# Altium schematic symbol library RC0805.SchLib: 789 symbols (part 8 of 11)
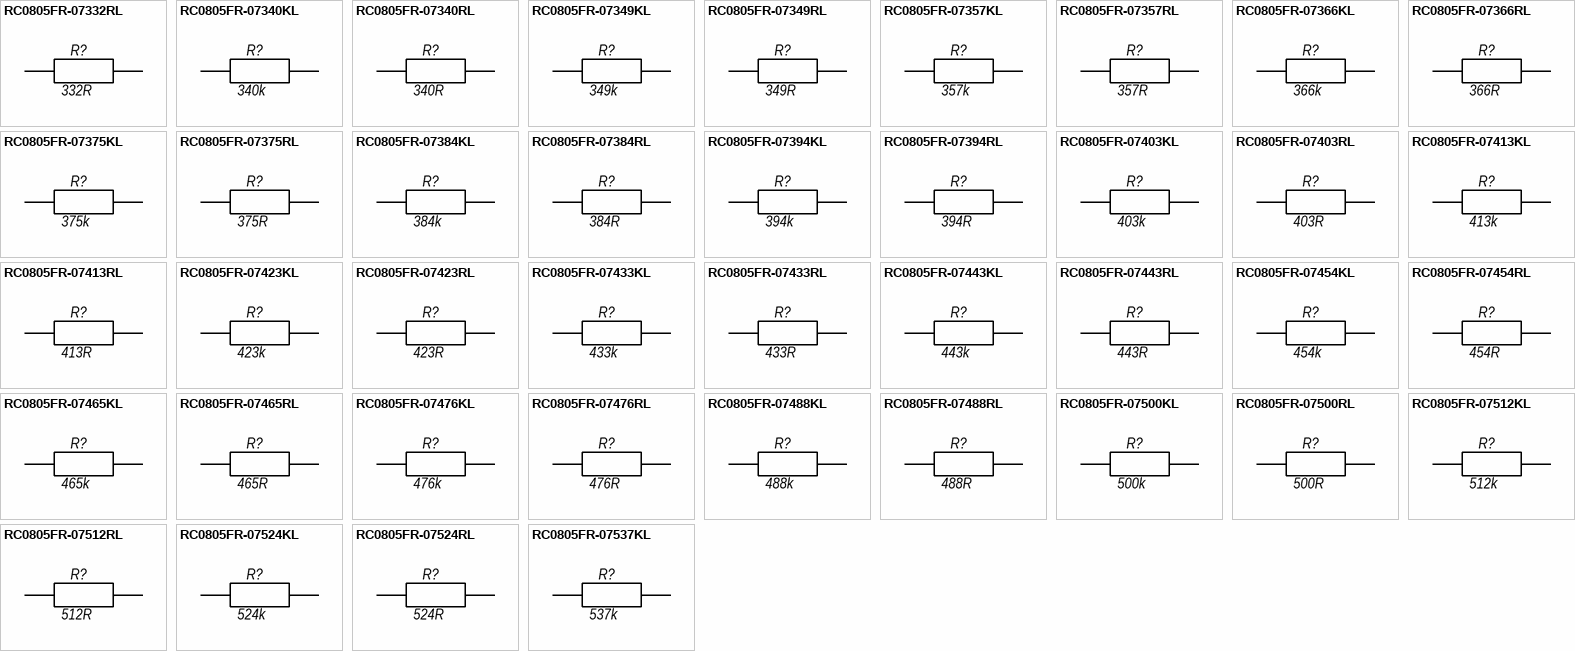
[diagram p26: symbols RC0805FR-07332RL to RC0805FR-07537KL]

## RC0805FR-07465KL
designator R?, comment 465k
RC0805FR-07465KL 0805 465 kOhm ±1% 1/8W 0805 SMD -55C...+155C; Manufacturer: Yageo; BOM2: 465 кОм ±1%, 1/8 Вт, SMD 0805, RC0805FR-07465KL; ValueBOM: RC0805FR-07465KL   Yageo                            (465 кОм ±1%, 1/8 Вт, SMD 0805, RC0805FR-07465KL); Value: 465k; Part Number: RC0805FR-07465KL; Package: 0805; BOM1: 465 kOhm ±1% 1/8W 0805 SMD
footprint RESC_0805_2012N (Chip Resistor, Body 2.0x1.3mm, IPC Medium Density)
footprint RESC_0805_2012M (Chip Resistor, Body 2.0x1.3mm, IPC Low Density)
footprint RESC_0805_2012L (Chip Resistor, Body 2.0x1.3mm, IPC High Density)
pins: 1, 2

## RC0805FR-07465RL
designator R?, comment 465R
RC0805FR-07465RL 0805 465 Ohm ±1% 1/8W 0805 SMD -55C...+155C; Manufacturer: Yageo; BOM2: 465 Ом ±1%, 1/8 Вт, SMD 0805, RC0805FR-07465RL; ValueBOM: RC0805FR-07465RL   Yageo                            (465 Ом ±1%, 1/8 Вт, SMD 0805, RC0805FR-07465RL); Value: 465R; Part Number: RC0805FR-07465RL; Package: 0805; BOM1: 465 Ohm ±1% 1/8W 0805 SMD
footprint RESC_0805_2012N (Chip Resistor, Body 2.0x1.3mm, IPC Medium Density)
footprint RESC_0805_2012M (Chip Resistor, Body 2.0x1.3mm, IPC Low Density)
footprint RESC_0805_2012L (Chip Resistor, Body 2.0x1.3mm, IPC High Density)
pins: 1, 2

## RC0805FR-07476KL
designator R?, comment 476k
RC0805FR-07476KL 0805 476 kOhm ±1% 1/8W 0805 SMD -55C...+155C; Manufacturer: Yageo; BOM2: 476 кОм ±1%, 1/8 Вт, SMD 0805, RC0805FR-07476KL; ValueBOM: RC0805FR-07476KL   Yageo                            (476 кОм ±1%, 1/8 Вт, SMD 0805, RC0805FR-07476KL); Value: 476k; Part Number: RC0805FR-07476KL; Package: 0805; BOM1: 476 kOhm ±1% 1/8W 0805 SMD
footprint RESC_0805_2012N (Chip Resistor, Body 2.0x1.3mm, IPC Medium Density)
footprint RESC_0805_2012M (Chip Resistor, Body 2.0x1.3mm, IPC Low Density)
footprint RESC_0805_2012L (Chip Resistor, Body 2.0x1.3mm, IPC High Density)
pins: 1, 2

## RC0805FR-07476RL
designator R?, comment 476R
RC0805FR-07476RL 0805 476 Ohm ±1% 1/8W 0805 SMD -55C...+155C; Manufacturer: Yageo; BOM2: 476 Ом ±1%, 1/8 Вт, SMD 0805, RC0805FR-07476RL; ValueBOM: RC0805FR-07476RL   Yageo                            (476 Ом ±1%, 1/8 Вт, SMD 0805, RC0805FR-07476RL); Value: 476R; Part Number: RC0805FR-07476RL; Package: 0805; BOM1: 476 Ohm ±1% 1/8W 0805 SMD
footprint RESC_0805_2012N (Chip Resistor, Body 2.0x1.3mm, IPC Medium Density)
footprint RESC_0805_2012M (Chip Resistor, Body 2.0x1.3mm, IPC Low Density)
footprint RESC_0805_2012L (Chip Resistor, Body 2.0x1.3mm, IPC High Density)
pins: 1, 2

## RC0805FR-07488KL
designator R?, comment 488k
RC0805FR-07488KL 0805 488 kOhm ±1% 1/8W 0805 SMD -55C...+155C; Manufacturer: Yageo; BOM2: 488 кОм ±1%, 1/8 Вт, SMD 0805, RC0805FR-07488KL; ValueBOM: RC0805FR-07488KL   Yageo                            (488 кОм ±1%, 1/8 Вт, SMD 0805, RC0805FR-07488KL); Value: 488k; Part Number: RC0805FR-07488KL; Package: 0805; BOM1: 488 kOhm ±1% 1/8W 0805 SMD
footprint RESC_0805_2012N (Chip Resistor, Body 2.0x1.3mm, IPC Medium Density)
footprint RESC_0805_2012M (Chip Resistor, Body 2.0x1.3mm, IPC Low Density)
footprint RESC_0805_2012L (Chip Resistor, Body 2.0x1.3mm, IPC High Density)
pins: 1, 2

## RC0805FR-07488RL
designator R?, comment 488R
RC0805FR-07488RL 0805 488 Ohm ±1% 1/8W 0805 SMD -55C...+155C; Manufacturer: Yageo; BOM2: 488 Ом ±1%, 1/8 Вт, SMD 0805, RC0805FR-07488RL; ValueBOM: RC0805FR-07488RL   Yageo                            (488 Ом ±1%, 1/8 Вт, SMD 0805, RC0805FR-07488RL); Value: 488R; Part Number: RC0805FR-07488RL; Package: 0805; BOM1: 488 Ohm ±1% 1/8W 0805 SMD
footprint RESC_0805_2012N (Chip Resistor, Body 2.0x1.3mm, IPC Medium Density)
footprint RESC_0805_2012M (Chip Resistor, Body 2.0x1.3mm, IPC Low Density)
footprint RESC_0805_2012L (Chip Resistor, Body 2.0x1.3mm, IPC High Density)
pins: 1, 2

## RC0805FR-07500KL
designator R?, comment 500k
RC0805FR-07500KL 0805 500 kOhm ±1% 1/8W 0805 SMD -55C...+155C; Manufacturer: Yageo; BOM2: 500 кОм ±1%, 1/8 Вт, SMD 0805, RC0805FR-07500KL; ValueBOM: RC0805FR-07500KL   Yageo                            (500 кОм ±1%, 1/8 Вт, SMD 0805, RC0805FR-07500KL); Value: 500k; Part Number: RC0805FR-07500KL; Package: 0805; BOM1: 500 kOhm ±1% 1/8W 0805 SMD
footprint RESC_0805_2012N (Chip Resistor, Body 2.0x1.3mm, IPC Medium Density)
footprint RESC_0805_2012M (Chip Resistor, Body 2.0x1.3mm, IPC Low Density)
footprint RESC_0805_2012L (Chip Resistor, Body 2.0x1.3mm, IPC High Density)
pins: 1, 2

## RC0805FR-07500RL
designator R?, comment 500R
RC0805FR-07500RL 0805 500 Ohm ±1% 1/8W 0805 SMD -55C...+155C; Manufacturer: Yageo; BOM2: 500 Ом ±1%, 1/8 Вт, SMD 0805, RC0805FR-07500RL; ValueBOM: RC0805FR-07500RL   Yageo                            (500 Ом ±1%, 1/8 Вт, SMD 0805, RC0805FR-07500RL); Value: 500R; Part Number: RC0805FR-07500RL; Package: 0805; BOM1: 500 Ohm ±1% 1/8W 0805 SMD
footprint RESC_0805_2012N (Chip Resistor, Body 2.0x1.3mm, IPC Medium Density)
footprint RESC_0805_2012M (Chip Resistor, Body 2.0x1.3mm, IPC Low Density)
footprint RESC_0805_2012L (Chip Resistor, Body 2.0x1.3mm, IPC High Density)
pins: 1, 2

## RC0805FR-07512KL
designator R?, comment 512k
RC0805FR-07512KL 0805 512 kOhm ±1% 1/8W 0805 SMD -55C...+155C; Manufacturer: Yageo; BOM2: 512 кОм ±1%, 1/8 Вт, SMD 0805, RC0805FR-07512KL; ValueBOM: RC0805FR-07512KL   Yageo                            (512 кОм ±1%, 1/8 Вт, SMD 0805, RC0805FR-07512KL); Value: 512k; Part Number: RC0805FR-07512KL; Package: 0805; BOM1: 512 kOhm ±1% 1/8W 0805 SMD
footprint RESC_0805_2012N (Chip Resistor, Body 2.0x1.3mm, IPC Medium Density)
footprint RESC_0805_2012M (Chip Resistor, Body 2.0x1.3mm, IPC Low Density)
footprint RESC_0805_2012L (Chip Resistor, Body 2.0x1.3mm, IPC High Density)
pins: 1, 2

## RC0805FR-07512RL
designator R?, comment 512R
RC0805FR-07512RL 0805 512 Ohm ±1% 1/8W 0805 SMD -55C...+155C; Manufacturer: Yageo; BOM2: 512 Ом ±1%, 1/8 Вт, SMD 0805, RC0805FR-07512RL; ValueBOM: RC0805FR-07512RL   Yageo                            (512 Ом ±1%, 1/8 Вт, SMD 0805, RC0805FR-07512RL); Value: 512R; Part Number: RC0805FR-07512RL; Package: 0805; BOM1: 512 Ohm ±1% 1/8W 0805 SMD
footprint RESC_0805_2012N (Chip Resistor, Body 2.0x1.3mm, IPC Medium Density)
footprint RESC_0805_2012M (Chip Resistor, Body 2.0x1.3mm, IPC Low Density)
footprint RESC_0805_2012L (Chip Resistor, Body 2.0x1.3mm, IPC High Density)
pins: 1, 2

## RC0805FR-07524KL
designator R?, comment 524k
RC0805FR-07524KL 0805 524 kOhm ±1% 1/8W 0805 SMD -55C...+155C; Manufacturer: Yageo; BOM2: 524 кОм ±1%, 1/8 Вт, SMD 0805, RC0805FR-07524KL; ValueBOM: RC0805FR-07524KL   Yageo                            (524 кОм ±1%, 1/8 Вт, SMD 0805, RC0805FR-07524KL); Value: 524k; Part Number: RC0805FR-07524KL; Package: 0805; BOM1: 524 kOhm ±1% 1/8W 0805 SMD
footprint RESC_0805_2012N (Chip Resistor, Body 2.0x1.3mm, IPC Medium Density)
footprint RESC_0805_2012M (Chip Resistor, Body 2.0x1.3mm, IPC Low Density)
footprint RESC_0805_2012L (Chip Resistor, Body 2.0x1.3mm, IPC High Density)
pins: 1, 2

## RC0805FR-07524RL
designator R?, comment 524R
RC0805FR-07524RL 0805 524 Ohm ±1% 1/8W 0805 SMD -55C...+155C; Manufacturer: Yageo; BOM2: 524 Ом ±1%, 1/8 Вт, SMD 0805, RC0805FR-07524RL; ValueBOM: RC0805FR-07524RL   Yageo                            (524 Ом ±1%, 1/8 Вт, SMD 0805, RC0805FR-07524RL); Value: 524R; Part Number: RC0805FR-07524RL; Package: 0805; BOM1: 524 Ohm ±1% 1/8W 0805 SMD
footprint RESC_0805_2012N (Chip Resistor, Body 2.0x1.3mm, IPC Medium Density)
footprint RESC_0805_2012M (Chip Resistor, Body 2.0x1.3mm, IPC Low Density)
footprint RESC_0805_2012L (Chip Resistor, Body 2.0x1.3mm, IPC High Density)
pins: 1, 2

## RC0805FR-07537KL
designator R?, comment 537k
RC0805FR-07537KL 0805 537 kOhm ±1% 1/8W 0805 SMD -55C...+155C; Manufacturer: Yageo; BOM2: 537 кОм ±1%, 1/8 Вт, SMD 0805, RC0805FR-07537KL; ValueBOM: RC0805FR-07537KL   Yageo                            (537 кОм ±1%, 1/8 Вт, SMD 0805, RC0805FR-07537KL); Value: 537k; Part Number: RC0805FR-07537KL; Package: 0805; BOM1: 537 kOhm ±1% 1/8W 0805 SMD
footprint RESC_0805_2012N (Chip Resistor, Body 2.0x1.3mm, IPC Medium Density)
footprint RESC_0805_2012M (Chip Resistor, Body 2.0x1.3mm, IPC Low Density)
footprint RESC_0805_2012L (Chip Resistor, Body 2.0x1.3mm, IPC High Density)
pins: 1, 2

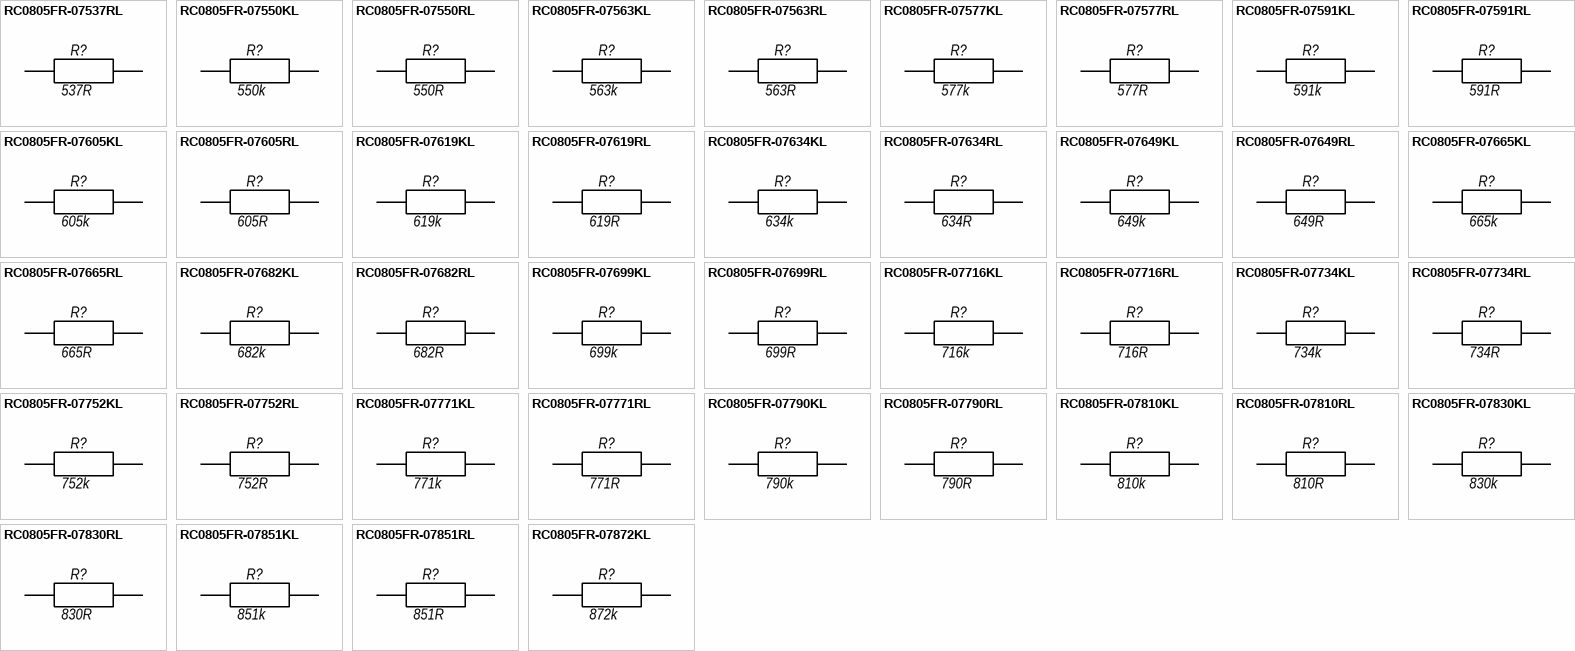
[diagram p14: symbols RC0805FR-07537RL to RC0805FR-07872KL]

## RC0805FR-07537RL
designator R?, comment 537R
RC0805FR-07537RL 0805 537 Ohm ±1% 1/8W 0805 SMD -55C...+155C; Manufacturer: Yageo; BOM2: 537 Ом ±1%, 1/8 Вт, SMD 0805, RC0805FR-07537RL; ValueBOM: RC0805FR-07537RL   Yageo                            (537 Ом ±1%, 1/8 Вт, SMD 0805, RC0805FR-07537RL); Value: 537R; Part Number: RC0805FR-07537RL; Package: 0805; BOM1: 537 Ohm ±1% 1/8W 0805 SMD
footprint RESC_0805_2012N (Chip Resistor, Body 2.0x1.3mm, IPC Medium Density)
footprint RESC_0805_2012M (Chip Resistor, Body 2.0x1.3mm, IPC Low Density)
footprint RESC_0805_2012L (Chip Resistor, Body 2.0x1.3mm, IPC High Density)
pins: 1, 2

## RC0805FR-07550KL
designator R?, comment 550k
RC0805FR-07550KL 0805 550 kOhm ±1% 1/8W 0805 SMD -55C...+155C; Manufacturer: Yageo; BOM2: 550 кОм ±1%, 1/8 Вт, SMD 0805, RC0805FR-07550KL; ValueBOM: RC0805FR-07550KL   Yageo                            (550 кОм ±1%, 1/8 Вт, SMD 0805, RC0805FR-07550KL); Value: 550k; Part Number: RC0805FR-07550KL; Package: 0805; BOM1: 550 kOhm ±1% 1/8W 0805 SMD
footprint RESC_0805_2012N (Chip Resistor, Body 2.0x1.3mm, IPC Medium Density)
footprint RESC_0805_2012M (Chip Resistor, Body 2.0x1.3mm, IPC Low Density)
footprint RESC_0805_2012L (Chip Resistor, Body 2.0x1.3mm, IPC High Density)
pins: 1, 2

## RC0805FR-07550RL
designator R?, comment 550R
RC0805FR-07550RL 0805 550 Ohm ±1% 1/8W 0805 SMD -55C...+155C; Manufacturer: Yageo; BOM2: 550 Ом ±1%, 1/8 Вт, SMD 0805, RC0805FR-07550RL; ValueBOM: RC0805FR-07550RL   Yageo                            (550 Ом ±1%, 1/8 Вт, SMD 0805, RC0805FR-07550RL); Value: 550R; Part Number: RC0805FR-07550RL; Package: 0805; BOM1: 550 Ohm ±1% 1/8W 0805 SMD
footprint RESC_0805_2012N (Chip Resistor, Body 2.0x1.3mm, IPC Medium Density)
footprint RESC_0805_2012M (Chip Resistor, Body 2.0x1.3mm, IPC Low Density)
footprint RESC_0805_2012L (Chip Resistor, Body 2.0x1.3mm, IPC High Density)
pins: 1, 2

## RC0805FR-07563KL
designator R?, comment 563k
RC0805FR-07563KL 0805 563 kOhm ±1% 1/8W 0805 SMD -55C...+155C; Manufacturer: Yageo; BOM2: 563 кОм ±1%, 1/8 Вт, SMD 0805, RC0805FR-07563KL; ValueBOM: RC0805FR-07563KL   Yageo                            (563 кОм ±1%, 1/8 Вт, SMD 0805, RC0805FR-07563KL); Value: 563k; Part Number: RC0805FR-07563KL; Package: 0805; BOM1: 563 kOhm ±1% 1/8W 0805 SMD
footprint RESC_0805_2012N (Chip Resistor, Body 2.0x1.3mm, IPC Medium Density)
footprint RESC_0805_2012M (Chip Resistor, Body 2.0x1.3mm, IPC Low Density)
footprint RESC_0805_2012L (Chip Resistor, Body 2.0x1.3mm, IPC High Density)
pins: 1, 2

## RC0805FR-07563RL
designator R?, comment 563R
RC0805FR-07563RL 0805 563 Ohm ±1% 1/8W 0805 SMD -55C...+155C; Manufacturer: Yageo; BOM2: 563 Ом ±1%, 1/8 Вт, SMD 0805, RC0805FR-07563RL; ValueBOM: RC0805FR-07563RL   Yageo                            (563 Ом ±1%, 1/8 Вт, SMD 0805, RC0805FR-07563RL); Value: 563R; Part Number: RC0805FR-07563RL; Package: 0805; BOM1: 563 Ohm ±1% 1/8W 0805 SMD
footprint RESC_0805_2012N (Chip Resistor, Body 2.0x1.3mm, IPC Medium Density)
footprint RESC_0805_2012M (Chip Resistor, Body 2.0x1.3mm, IPC Low Density)
footprint RESC_0805_2012L (Chip Resistor, Body 2.0x1.3mm, IPC High Density)
pins: 1, 2

## RC0805FR-07577KL
designator R?, comment 577k
RC0805FR-07577KL 0805 577 kOhm ±1% 1/8W 0805 SMD -55C...+155C; Manufacturer: Yageo; BOM2: 577 кОм ±1%, 1/8 Вт, SMD 0805, RC0805FR-07577KL; ValueBOM: RC0805FR-07577KL   Yageo                            (577 кОм ±1%, 1/8 Вт, SMD 0805, RC0805FR-07577KL); Value: 577k; Part Number: RC0805FR-07577KL; Package: 0805; BOM1: 577 kOhm ±1% 1/8W 0805 SMD
footprint RESC_0805_2012N (Chip Resistor, Body 2.0x1.3mm, IPC Medium Density)
footprint RESC_0805_2012M (Chip Resistor, Body 2.0x1.3mm, IPC Low Density)
footprint RESC_0805_2012L (Chip Resistor, Body 2.0x1.3mm, IPC High Density)
pins: 1, 2

## RC0805FR-07577RL
designator R?, comment 577R
RC0805FR-07577RL 0805 577 Ohm ±1% 1/8W 0805 SMD -55C...+155C; Manufacturer: Yageo; BOM2: 577 Ом ±1%, 1/8 Вт, SMD 0805, RC0805FR-07577RL; ValueBOM: RC0805FR-07577RL   Yageo                            (577 Ом ±1%, 1/8 Вт, SMD 0805, RC0805FR-07577RL); Value: 577R; Part Number: RC0805FR-07577RL; Package: 0805; BOM1: 577 Ohm ±1% 1/8W 0805 SMD
footprint RESC_0805_2012N (Chip Resistor, Body 2.0x1.3mm, IPC Medium Density)
footprint RESC_0805_2012M (Chip Resistor, Body 2.0x1.3mm, IPC Low Density)
footprint RESC_0805_2012L (Chip Resistor, Body 2.0x1.3mm, IPC High Density)
pins: 1, 2

## RC0805FR-07591KL
designator R?, comment 591k
RC0805FR-07591KL 0805 591 kOhm ±1% 1/8W 0805 SMD -55C...+155C; Manufacturer: Yageo; BOM2: 591 кОм ±1%, 1/8 Вт, SMD 0805, RC0805FR-07591KL; ValueBOM: RC0805FR-07591KL   Yageo                            (591 кОм ±1%, 1/8 Вт, SMD 0805, RC0805FR-07591KL); Value: 591k; Part Number: RC0805FR-07591KL; Package: 0805; BOM1: 591 kOhm ±1% 1/8W 0805 SMD
footprint RESC_0805_2012N (Chip Resistor, Body 2.0x1.3mm, IPC Medium Density)
footprint RESC_0805_2012M (Chip Resistor, Body 2.0x1.3mm, IPC Low Density)
footprint RESC_0805_2012L (Chip Resistor, Body 2.0x1.3mm, IPC High Density)
pins: 1, 2

## RC0805FR-07591RL
designator R?, comment 591R
RC0805FR-07591RL 0805 591 Ohm ±1% 1/8W 0805 SMD -55C...+155C; Manufacturer: Yageo; BOM2: 591 Ом ±1%, 1/8 Вт, SMD 0805, RC0805FR-07591RL; ValueBOM: RC0805FR-07591RL   Yageo                            (591 Ом ±1%, 1/8 Вт, SMD 0805, RC0805FR-07591RL); Value: 591R; Part Number: RC0805FR-07591RL; Package: 0805; BOM1: 591 Ohm ±1% 1/8W 0805 SMD
footprint RESC_0805_2012N (Chip Resistor, Body 2.0x1.3mm, IPC Medium Density)
footprint RESC_0805_2012M (Chip Resistor, Body 2.0x1.3mm, IPC Low Density)
footprint RESC_0805_2012L (Chip Resistor, Body 2.0x1.3mm, IPC High Density)
pins: 1, 2

## RC0805FR-07605KL
designator R?, comment 605k
RC0805FR-07605KL 0805 605 kOhm ±1% 1/8W 0805 SMD -55C...+155C; Manufacturer: Yageo; BOM2: 605 кОм ±1%, 1/8 Вт, SMD 0805, RC0805FR-07605KL; ValueBOM: RC0805FR-07605KL   Yageo                            (605 кОм ±1%, 1/8 Вт, SMD 0805, RC0805FR-07605KL); Value: 605k; Part Number: RC0805FR-07605KL; Package: 0805; BOM1: 605 kOhm ±1% 1/8W 0805 SMD
footprint RESC_0805_2012N (Chip Resistor, Body 2.0x1.3mm, IPC Medium Density)
footprint RESC_0805_2012M (Chip Resistor, Body 2.0x1.3mm, IPC Low Density)
footprint RESC_0805_2012L (Chip Resistor, Body 2.0x1.3mm, IPC High Density)
pins: 1, 2

## RC0805FR-07605RL
designator R?, comment 605R
RC0805FR-07605RL 0805 605 Ohm ±1% 1/8W 0805 SMD -55C...+155C; Manufacturer: Yageo; BOM2: 605 Ом ±1%, 1/8 Вт, SMD 0805, RC0805FR-07605RL; ValueBOM: RC0805FR-07605RL   Yageo                            (605 Ом ±1%, 1/8 Вт, SMD 0805, RC0805FR-07605RL); Value: 605R; Part Number: RC0805FR-07605RL; Package: 0805; BOM1: 605 Ohm ±1% 1/8W 0805 SMD
footprint RESC_0805_2012N (Chip Resistor, Body 2.0x1.3mm, IPC Medium Density)
footprint RESC_0805_2012M (Chip Resistor, Body 2.0x1.3mm, IPC Low Density)
footprint RESC_0805_2012L (Chip Resistor, Body 2.0x1.3mm, IPC High Density)
pins: 1, 2

## RC0805FR-07619KL
designator R?, comment 619k
RC0805FR-07619KL 0805 619 kOhm ±1% 1/8W 0805 SMD -55C...+155C; Manufacturer: Yageo; BOM2: 619 кОм ±1%, 1/8 Вт, SMD 0805, RC0805FR-07619KL; ValueBOM: RC0805FR-07619KL   Yageo                            (619 кОм ±1%, 1/8 Вт, SMD 0805, RC0805FR-07619KL); Value: 619k; Part Number: RC0805FR-07619KL; Package: 0805; BOM1: 619 kOhm ±1% 1/8W 0805 SMD
footprint RESC_0805_2012N (Chip Resistor, Body 2.0x1.3mm, IPC Medium Density)
footprint RESC_0805_2012M (Chip Resistor, Body 2.0x1.3mm, IPC Low Density)
footprint RESC_0805_2012L (Chip Resistor, Body 2.0x1.3mm, IPC High Density)
pins: 1, 2

## RC0805FR-07619RL
designator R?, comment 619R
RC0805FR-07619RL 0805 619 Ohm ±1% 1/8W 0805 SMD -55C...+155C; Manufacturer: Yageo; BOM2: 619 Ом ±1%, 1/8 Вт, SMD 0805, RC0805FR-07619RL; ValueBOM: RC0805FR-07619RL   Yageo                            (619 Ом ±1%, 1/8 Вт, SMD 0805, RC0805FR-07619RL); Value: 619R; Part Number: RC0805FR-07619RL; Package: 0805; BOM1: 619 Ohm ±1% 1/8W 0805 SMD
footprint RESC_0805_2012N (Chip Resistor, Body 2.0x1.3mm, IPC Medium Density)
footprint RESC_0805_2012M (Chip Resistor, Body 2.0x1.3mm, IPC Low Density)
footprint RESC_0805_2012L (Chip Resistor, Body 2.0x1.3mm, IPC High Density)
pins: 1, 2

## RC0805FR-07634KL
designator R?, comment 634k
RC0805FR-07634KL 0805 634 kOhm ±1% 1/8W 0805 SMD -55C...+155C; Manufacturer: Yageo; BOM2: 634 кОм ±1%, 1/8 Вт, SMD 0805, RC0805FR-07634KL; ValueBOM: RC0805FR-07634KL   Yageo                            (634 кОм ±1%, 1/8 Вт, SMD 0805, RC0805FR-07634KL); Value: 634k; Part Number: RC0805FR-07634KL; Package: 0805; BOM1: 634 kOhm ±1% 1/8W 0805 SMD
footprint RESC_0805_2012N (Chip Resistor, Body 2.0x1.3mm, IPC Medium Density)
footprint RESC_0805_2012M (Chip Resistor, Body 2.0x1.3mm, IPC Low Density)
footprint RESC_0805_2012L (Chip Resistor, Body 2.0x1.3mm, IPC High Density)
pins: 1, 2

## RC0805FR-07634RL
designator R?, comment 634R
RC0805FR-07634RL 0805 634 Ohm ±1% 1/8W 0805 SMD -55C...+155C; Manufacturer: Yageo; BOM2: 634 Ом ±1%, 1/8 Вт, SMD 0805, RC0805FR-07634RL; ValueBOM: RC0805FR-07634RL   Yageo                            (634 Ом ±1%, 1/8 Вт, SMD 0805, RC0805FR-07634RL); Value: 634R; Part Number: RC0805FR-07634RL; Package: 0805; BOM1: 634 Ohm ±1% 1/8W 0805 SMD
footprint RESC_0805_2012N (Chip Resistor, Body 2.0x1.3mm, IPC Medium Density)
footprint RESC_0805_2012M (Chip Resistor, Body 2.0x1.3mm, IPC Low Density)
footprint RESC_0805_2012L (Chip Resistor, Body 2.0x1.3mm, IPC High Density)
pins: 1, 2

## RC0805FR-07649KL
designator R?, comment 649k
RC0805FR-07649KL 0805 649 kOhm ±1% 1/8W 0805 SMD -55C...+155C; Manufacturer: Yageo; BOM2: 649 кОм ±1%, 1/8 Вт, SMD 0805, RC0805FR-07649KL; ValueBOM: RC0805FR-07649KL   Yageo                            (649 кОм ±1%, 1/8 Вт, SMD 0805, RC0805FR-07649KL); Value: 649k; Part Number: RC0805FR-07649KL; Package: 0805; BOM1: 649 kOhm ±1% 1/8W 0805 SMD
footprint RESC_0805_2012N (Chip Resistor, Body 2.0x1.3mm, IPC Medium Density)
footprint RESC_0805_2012M (Chip Resistor, Body 2.0x1.3mm, IPC Low Density)
footprint RESC_0805_2012L (Chip Resistor, Body 2.0x1.3mm, IPC High Density)
pins: 1, 2

## RC0805FR-07649RL
designator R?, comment 649R
RC0805FR-07649RL 0805 649 Ohm ±1% 1/8W 0805 SMD -55C...+155C; Manufacturer: Yageo; BOM2: 649 Ом ±1%, 1/8 Вт, SMD 0805, RC0805FR-07649RL; ValueBOM: RC0805FR-07649RL   Yageo                            (649 Ом ±1%, 1/8 Вт, SMD 0805, RC0805FR-07649RL); Value: 649R; Part Number: RC0805FR-07649RL; Package: 0805; BOM1: 649 Ohm ±1% 1/8W 0805 SMD
footprint RESC_0805_2012N (Chip Resistor, Body 2.0x1.3mm, IPC Medium Density)
footprint RESC_0805_2012M (Chip Resistor, Body 2.0x1.3mm, IPC Low Density)
footprint RESC_0805_2012L (Chip Resistor, Body 2.0x1.3mm, IPC High Density)
pins: 1, 2

## RC0805FR-07665KL
designator R?, comment 665k
RC0805FR-07665KL 0805 665 kOhm ±1% 1/8W 0805 SMD -55C...+155C; Manufacturer: Yageo; BOM2: 665 кОм ±1%, 1/8 Вт, SMD 0805, RC0805FR-07665KL; ValueBOM: RC0805FR-07665KL   Yageo                            (665 кОм ±1%, 1/8 Вт, SMD 0805, RC0805FR-07665KL); Value: 665k; Part Number: RC0805FR-07665KL; Package: 0805; BOM1: 665 kOhm ±1% 1/8W 0805 SMD
footprint RESC_0805_2012N (Chip Resistor, Body 2.0x1.3mm, IPC Medium Density)
footprint RESC_0805_2012M (Chip Resistor, Body 2.0x1.3mm, IPC Low Density)
footprint RESC_0805_2012L (Chip Resistor, Body 2.0x1.3mm, IPC High Density)
pins: 1, 2

## RC0805FR-07665RL
designator R?, comment 665R
RC0805FR-07665RL 0805 665 Ohm ±1% 1/8W 0805 SMD -55C...+155C; Manufacturer: Yageo; BOM2: 665 Ом ±1%, 1/8 Вт, SMD 0805, RC0805FR-07665RL; ValueBOM: RC0805FR-07665RL   Yageo                            (665 Ом ±1%, 1/8 Вт, SMD 0805, RC0805FR-07665RL); Value: 665R; Part Number: RC0805FR-07665RL; Package: 0805; BOM1: 665 Ohm ±1% 1/8W 0805 SMD
footprint RESC_0805_2012N (Chip Resistor, Body 2.0x1.3mm, IPC Medium Density)
footprint RESC_0805_2012M (Chip Resistor, Body 2.0x1.3mm, IPC Low Density)
footprint RESC_0805_2012L (Chip Resistor, Body 2.0x1.3mm, IPC High Density)
pins: 1, 2

## RC0805FR-07682KL
designator R?, comment 682k
RC0805FR-07682KL 0805 682 kOhm ±1% 1/8W 0805 SMD -55C...+155C; Manufacturer: Yageo; BOM2: 682 кОм ±1%, 1/8 Вт, SMD 0805, RC0805FR-07682KL; ValueBOM: RC0805FR-07682KL   Yageo                            (682 кОм ±1%, 1/8 Вт, SMD 0805, RC0805FR-07682KL); Value: 682k; Part Number: RC0805FR-07682KL; Package: 0805; BOM1: 682 kOhm ±1% 1/8W 0805 SMD
footprint RESC_0805_2012N (Chip Resistor, Body 2.0x1.3mm, IPC Medium Density)
footprint RESC_0805_2012M (Chip Resistor, Body 2.0x1.3mm, IPC Low Density)
footprint RESC_0805_2012L (Chip Resistor, Body 2.0x1.3mm, IPC High Density)
pins: 1, 2

## RC0805FR-07682RL
designator R?, comment 682R
RC0805FR-07682RL 0805 682 Ohm ±1% 1/8W 0805 SMD -55C...+155C; Manufacturer: Yageo; BOM2: 682 Ом ±1%, 1/8 Вт, SMD 0805, RC0805FR-07682RL; ValueBOM: RC0805FR-07682RL   Yageo                            (682 Ом ±1%, 1/8 Вт, SMD 0805, RC0805FR-07682RL); Value: 682R; Part Number: RC0805FR-07682RL; Package: 0805; BOM1: 682 Ohm ±1% 1/8W 0805 SMD
footprint RESC_0805_2012N (Chip Resistor, Body 2.0x1.3mm, IPC Medium Density)
footprint RESC_0805_2012M (Chip Resistor, Body 2.0x1.3mm, IPC Low Density)
footprint RESC_0805_2012L (Chip Resistor, Body 2.0x1.3mm, IPC High Density)
pins: 1, 2

## RC0805FR-07699KL
designator R?, comment 699k
RC0805FR-07699KL 0805 699 kOhm ±1% 1/8W 0805 SMD -55C...+155C; Manufacturer: Yageo; BOM2: 699 кОм ±1%, 1/8 Вт, SMD 0805, RC0805FR-07699KL; ValueBOM: RC0805FR-07699KL   Yageo                            (699 кОм ±1%, 1/8 Вт, SMD 0805, RC0805FR-07699KL); Value: 699k; Part Number: RC0805FR-07699KL; Package: 0805; BOM1: 699 kOhm ±1% 1/8W 0805 SMD
footprint RESC_0805_2012N (Chip Resistor, Body 2.0x1.3mm, IPC Medium Density)
footprint RESC_0805_2012M (Chip Resistor, Body 2.0x1.3mm, IPC Low Density)
footprint RESC_0805_2012L (Chip Resistor, Body 2.0x1.3mm, IPC High Density)
pins: 1, 2

## RC0805FR-07699RL
designator R?, comment 699R
RC0805FR-07699RL 0805 699 Ohm ±1% 1/8W 0805 SMD -55C...+155C; Manufacturer: Yageo; BOM2: 699 Ом ±1%, 1/8 Вт, SMD 0805, RC0805FR-07699RL; ValueBOM: RC0805FR-07699RL   Yageo                            (699 Ом ±1%, 1/8 Вт, SMD 0805, RC0805FR-07699RL); Value: 699R; Part Number: RC0805FR-07699RL; Package: 0805; BOM1: 699 Ohm ±1% 1/8W 0805 SMD
footprint RESC_0805_2012N (Chip Resistor, Body 2.0x1.3mm, IPC Medium Density)
footprint RESC_0805_2012M (Chip Resistor, Body 2.0x1.3mm, IPC Low Density)
footprint RESC_0805_2012L (Chip Resistor, Body 2.0x1.3mm, IPC High Density)
pins: 1, 2

## RC0805FR-07716KL
designator R?, comment 716k
RC0805FR-07716KL 0805 716 kOhm ±1% 1/8W 0805 SMD -55C...+155C; Manufacturer: Yageo; BOM2: 716 кОм ±1%, 1/8 Вт, SMD 0805, RC0805FR-07716KL; ValueBOM: RC0805FR-07716KL   Yageo                            (716 кОм ±1%, 1/8 Вт, SMD 0805, RC0805FR-07716KL); Value: 716k; Part Number: RC0805FR-07716KL; Package: 0805; BOM1: 716 kOhm ±1% 1/8W 0805 SMD
footprint RESC_0805_2012N (Chip Resistor, Body 2.0x1.3mm, IPC Medium Density)
footprint RESC_0805_2012M (Chip Resistor, Body 2.0x1.3mm, IPC Low Density)
footprint RESC_0805_2012L (Chip Resistor, Body 2.0x1.3mm, IPC High Density)
pins: 1, 2

## RC0805FR-07716RL
designator R?, comment 716R
RC0805FR-07716RL 0805 716 Ohm ±1% 1/8W 0805 SMD -55C...+155C; Manufacturer: Yageo; BOM2: 716 Ом ±1%, 1/8 Вт, SMD 0805, RC0805FR-07716RL; ValueBOM: RC0805FR-07716RL   Yageo                            (716 Ом ±1%, 1/8 Вт, SMD 0805, RC0805FR-07716RL); Value: 716R; Part Number: RC0805FR-07716RL; Package: 0805; BOM1: 716 Ohm ±1% 1/8W 0805 SMD
footprint RESC_0805_2012N (Chip Resistor, Body 2.0x1.3mm, IPC Medium Density)
footprint RESC_0805_2012M (Chip Resistor, Body 2.0x1.3mm, IPC Low Density)
footprint RESC_0805_2012L (Chip Resistor, Body 2.0x1.3mm, IPC High Density)
pins: 1, 2

## RC0805FR-07734KL
designator R?, comment 734k
RC0805FR-07734KL 0805 734 kOhm ±1% 1/8W 0805 SMD -55C...+155C; Manufacturer: Yageo; BOM2: 734 кОм ±1%, 1/8 Вт, SMD 0805, RC0805FR-07734KL; ValueBOM: RC0805FR-07734KL   Yageo                            (734 кОм ±1%, 1/8 Вт, SMD 0805, RC0805FR-07734KL); Value: 734k; Part Number: RC0805FR-07734KL; Package: 0805; BOM1: 734 kOhm ±1% 1/8W 0805 SMD
footprint RESC_0805_2012N (Chip Resistor, Body 2.0x1.3mm, IPC Medium Density)
footprint RESC_0805_2012M (Chip Resistor, Body 2.0x1.3mm, IPC Low Density)
footprint RESC_0805_2012L (Chip Resistor, Body 2.0x1.3mm, IPC High Density)
pins: 1, 2

## RC0805FR-07734RL
designator R?, comment 734R
RC0805FR-07734RL 0805 734 Ohm ±1% 1/8W 0805 SMD -55C...+155C; Manufacturer: Yageo; BOM2: 734 Ом ±1%, 1/8 Вт, SMD 0805, RC0805FR-07734RL; ValueBOM: RC0805FR-07734RL   Yageo                            (734 Ом ±1%, 1/8 Вт, SMD 0805, RC0805FR-07734RL); Value: 734R; Part Number: RC0805FR-07734RL; Package: 0805; BOM1: 734 Ohm ±1% 1/8W 0805 SMD
footprint RESC_0805_2012N (Chip Resistor, Body 2.0x1.3mm, IPC Medium Density)
footprint RESC_0805_2012M (Chip Resistor, Body 2.0x1.3mm, IPC Low Density)
footprint RESC_0805_2012L (Chip Resistor, Body 2.0x1.3mm, IPC High Density)
pins: 1, 2

## RC0805FR-07752KL
designator R?, comment 752k
RC0805FR-07752KL 0805 752 kOhm ±1% 1/8W 0805 SMD -55C...+155C; Manufacturer: Yageo; BOM2: 752 кОм ±1%, 1/8 Вт, SMD 0805, RC0805FR-07752KL; ValueBOM: RC0805FR-07752KL   Yageo                            (752 кОм ±1%, 1/8 Вт, SMD 0805, RC0805FR-07752KL); Value: 752k; Part Number: RC0805FR-07752KL; Package: 0805; BOM1: 752 kOhm ±1% 1/8W 0805 SMD
footprint RESC_0805_2012N (Chip Resistor, Body 2.0x1.3mm, IPC Medium Density)
footprint RESC_0805_2012M (Chip Resistor, Body 2.0x1.3mm, IPC Low Density)
footprint RESC_0805_2012L (Chip Resistor, Body 2.0x1.3mm, IPC High Density)
pins: 1, 2

## RC0805FR-07752RL
designator R?, comment 752R
RC0805FR-07752RL 0805 752 Ohm ±1% 1/8W 0805 SMD -55C...+155C; Manufacturer: Yageo; BOM2: 752 Ом ±1%, 1/8 Вт, SMD 0805, RC0805FR-07752RL; ValueBOM: RC0805FR-07752RL   Yageo                            (752 Ом ±1%, 1/8 Вт, SMD 0805, RC0805FR-07752RL); Value: 752R; Part Number: RC0805FR-07752RL; Package: 0805; BOM1: 752 Ohm ±1% 1/8W 0805 SMD
footprint RESC_0805_2012N (Chip Resistor, Body 2.0x1.3mm, IPC Medium Density)
footprint RESC_0805_2012M (Chip Resistor, Body 2.0x1.3mm, IPC Low Density)
footprint RESC_0805_2012L (Chip Resistor, Body 2.0x1.3mm, IPC High Density)
pins: 1, 2

## RC0805FR-07771KL
designator R?, comment 771k
RC0805FR-07771KL 0805 771 kOhm ±1% 1/8W 0805 SMD -55C...+155C; Manufacturer: Yageo; BOM2: 771 кОм ±1%, 1/8 Вт, SMD 0805, RC0805FR-07771KL; ValueBOM: RC0805FR-07771KL   Yageo                            (771 кОм ±1%, 1/8 Вт, SMD 0805, RC0805FR-07771KL); Value: 771k; Part Number: RC0805FR-07771KL; Package: 0805; BOM1: 771 kOhm ±1% 1/8W 0805 SMD
footprint RESC_0805_2012N (Chip Resistor, Body 2.0x1.3mm, IPC Medium Density)
footprint RESC_0805_2012M (Chip Resistor, Body 2.0x1.3mm, IPC Low Density)
footprint RESC_0805_2012L (Chip Resistor, Body 2.0x1.3mm, IPC High Density)
pins: 1, 2

## RC0805FR-07771RL
designator R?, comment 771R
RC0805FR-07771RL 0805 771 Ohm ±1% 1/8W 0805 SMD -55C...+155C; Manufacturer: Yageo; BOM2: 771 Ом ±1%, 1/8 Вт, SMD 0805, RC0805FR-07771RL; ValueBOM: RC0805FR-07771RL   Yageo                            (771 Ом ±1%, 1/8 Вт, SMD 0805, RC0805FR-07771RL); Value: 771R; Part Number: RC0805FR-07771RL; Package: 0805; BOM1: 771 Ohm ±1% 1/8W 0805 SMD
footprint RESC_0805_2012N (Chip Resistor, Body 2.0x1.3mm, IPC Medium Density)
footprint RESC_0805_2012M (Chip Resistor, Body 2.0x1.3mm, IPC Low Density)
footprint RESC_0805_2012L (Chip Resistor, Body 2.0x1.3mm, IPC High Density)
pins: 1, 2

## RC0805FR-07790KL
designator R?, comment 790k
RC0805FR-07790KL 0805 790 kOhm ±1% 1/8W 0805 SMD -55C...+155C; Manufacturer: Yageo; BOM2: 790 кОм ±1%, 1/8 Вт, SMD 0805, RC0805FR-07790KL; ValueBOM: RC0805FR-07790KL   Yageo                            (790 кОм ±1%, 1/8 Вт, SMD 0805, RC0805FR-07790KL); Value: 790k; Part Number: RC0805FR-07790KL; Package: 0805; BOM1: 790 kOhm ±1% 1/8W 0805 SMD
footprint RESC_0805_2012N (Chip Resistor, Body 2.0x1.3mm, IPC Medium Density)
footprint RESC_0805_2012M (Chip Resistor, Body 2.0x1.3mm, IPC Low Density)
footprint RESC_0805_2012L (Chip Resistor, Body 2.0x1.3mm, IPC High Density)
pins: 1, 2

## RC0805FR-07790RL
designator R?, comment 790R
RC0805FR-07790RL 0805 790 Ohm ±1% 1/8W 0805 SMD -55C...+155C; Manufacturer: Yageo; BOM2: 790 Ом ±1%, 1/8 Вт, SMD 0805, RC0805FR-07790RL; ValueBOM: RC0805FR-07790RL   Yageo                            (790 Ом ±1%, 1/8 Вт, SMD 0805, RC0805FR-07790RL); Value: 790R; Part Number: RC0805FR-07790RL; Package: 0805; BOM1: 790 Ohm ±1% 1/8W 0805 SMD
footprint RESC_0805_2012N (Chip Resistor, Body 2.0x1.3mm, IPC Medium Density)
footprint RESC_0805_2012M (Chip Resistor, Body 2.0x1.3mm, IPC Low Density)
footprint RESC_0805_2012L (Chip Resistor, Body 2.0x1.3mm, IPC High Density)
pins: 1, 2

## RC0805FR-07810KL
designator R?, comment 810k
RC0805FR-07810KL 0805 810 kOhm ±1% 1/8W 0805 SMD -55C...+155C; Manufacturer: Yageo; BOM2: 810 кОм ±1%, 1/8 Вт, SMD 0805, RC0805FR-07810KL; ValueBOM: RC0805FR-07810KL   Yageo                            (810 кОм ±1%, 1/8 Вт, SMD 0805, RC0805FR-07810KL); Value: 810k; Part Number: RC0805FR-07810KL; Package: 0805; BOM1: 810 kOhm ±1% 1/8W 0805 SMD
footprint RESC_0805_2012N (Chip Resistor, Body 2.0x1.3mm, IPC Medium Density)
footprint RESC_0805_2012M (Chip Resistor, Body 2.0x1.3mm, IPC Low Density)
footprint RESC_0805_2012L (Chip Resistor, Body 2.0x1.3mm, IPC High Density)
pins: 1, 2

## RC0805FR-07810RL
designator R?, comment 810R
RC0805FR-07810RL 0805 810 Ohm ±1% 1/8W 0805 SMD -55C...+155C; Manufacturer: Yageo; BOM2: 810 Ом ±1%, 1/8 Вт, SMD 0805, RC0805FR-07810RL; ValueBOM: RC0805FR-07810RL   Yageo                            (810 Ом ±1%, 1/8 Вт, SMD 0805, RC0805FR-07810RL); Value: 810R; Part Number: RC0805FR-07810RL; Package: 0805; BOM1: 810 Ohm ±1% 1/8W 0805 SMD
footprint RESC_0805_2012N (Chip Resistor, Body 2.0x1.3mm, IPC Medium Density)
footprint RESC_0805_2012M (Chip Resistor, Body 2.0x1.3mm, IPC Low Density)
footprint RESC_0805_2012L (Chip Resistor, Body 2.0x1.3mm, IPC High Density)
pins: 1, 2

## RC0805FR-07830KL
designator R?, comment 830k
RC0805FR-07830KL 0805 830 kOhm ±1% 1/8W 0805 SMD -55C...+155C; Manufacturer: Yageo; BOM2: 830 кОм ±1%, 1/8 Вт, SMD 0805, RC0805FR-07830KL; ValueBOM: RC0805FR-07830KL   Yageo                            (830 кОм ±1%, 1/8 Вт, SMD 0805, RC0805FR-07830KL); Value: 830k; Part Number: RC0805FR-07830KL; Package: 0805; BOM1: 830 kOhm ±1% 1/8W 0805 SMD
footprint RESC_0805_2012N (Chip Resistor, Body 2.0x1.3mm, IPC Medium Density)
footprint RESC_0805_2012M (Chip Resistor, Body 2.0x1.3mm, IPC Low Density)
footprint RESC_0805_2012L (Chip Resistor, Body 2.0x1.3mm, IPC High Density)
pins: 1, 2

## RC0805FR-07830RL
designator R?, comment 830R
RC0805FR-07830RL 0805 830 Ohm ±1% 1/8W 0805 SMD -55C...+155C; Manufacturer: Yageo; BOM2: 830 Ом ±1%, 1/8 Вт, SMD 0805, RC0805FR-07830RL; ValueBOM: RC0805FR-07830RL   Yageo                            (830 Ом ±1%, 1/8 Вт, SMD 0805, RC0805FR-07830RL); Value: 830R; Part Number: RC0805FR-07830RL; Package: 0805; BOM1: 830 Ohm ±1% 1/8W 0805 SMD
footprint RESC_0805_2012N (Chip Resistor, Body 2.0x1.3mm, IPC Medium Density)
footprint RESC_0805_2012M (Chip Resistor, Body 2.0x1.3mm, IPC Low Density)
footprint RESC_0805_2012L (Chip Resistor, Body 2.0x1.3mm, IPC High Density)
pins: 1, 2

## RC0805FR-07851KL
designator R?, comment 851k
RC0805FR-07851KL 0805 851 kOhm ±1% 1/8W 0805 SMD -55C...+155C; Manufacturer: Yageo; BOM2: 851 кОм ±1%, 1/8 Вт, SMD 0805, RC0805FR-07851KL; ValueBOM: RC0805FR-07851KL   Yageo                            (851 кОм ±1%, 1/8 Вт, SMD 0805, RC0805FR-07851KL); Value: 851k; Part Number: RC0805FR-07851KL; Package: 0805; BOM1: 851 kOhm ±1% 1/8W 0805 SMD
footprint RESC_0805_2012N (Chip Resistor, Body 2.0x1.3mm, IPC Medium Density)
footprint RESC_0805_2012M (Chip Resistor, Body 2.0x1.3mm, IPC Low Density)
footprint RESC_0805_2012L (Chip Resistor, Body 2.0x1.3mm, IPC High Density)
pins: 1, 2

## RC0805FR-07851RL
designator R?, comment 851R
RC0805FR-07851RL 0805 851 Ohm ±1% 1/8W 0805 SMD -55C...+155C; Manufacturer: Yageo; BOM2: 851 Ом ±1%, 1/8 Вт, SMD 0805, RC0805FR-07851RL; ValueBOM: RC0805FR-07851RL   Yageo                            (851 Ом ±1%, 1/8 Вт, SMD 0805, RC0805FR-07851RL); Value: 851R; Part Number: RC0805FR-07851RL; Package: 0805; BOM1: 851 Ohm ±1% 1/8W 0805 SMD
footprint RESC_0805_2012N (Chip Resistor, Body 2.0x1.3mm, IPC Medium Density)
footprint RESC_0805_2012M (Chip Resistor, Body 2.0x1.3mm, IPC Low Density)
footprint RESC_0805_2012L (Chip Resistor, Body 2.0x1.3mm, IPC High Density)
pins: 1, 2

## RC0805FR-07872KL
designator R?, comment 872k
RC0805FR-07872KL 0805 872 kOhm ±1% 1/8W 0805 SMD -55C...+155C; Manufacturer: Yageo; BOM2: 872 кОм ±1%, 1/8 Вт, SMD 0805, RC0805FR-07872KL; ValueBOM: RC0805FR-07872KL   Yageo                            (872 кОм ±1%, 1/8 Вт, SMD 0805, RC0805FR-07872KL); Value: 872k; Part Number: RC0805FR-07872KL; Package: 0805; BOM1: 872 kOhm ±1% 1/8W 0805 SMD
footprint RESC_0805_2012N (Chip Resistor, Body 2.0x1.3mm, IPC Medium Density)
footprint RESC_0805_2012M (Chip Resistor, Body 2.0x1.3mm, IPC Low Density)
footprint RESC_0805_2012L (Chip Resistor, Body 2.0x1.3mm, IPC High Density)
pins: 1, 2

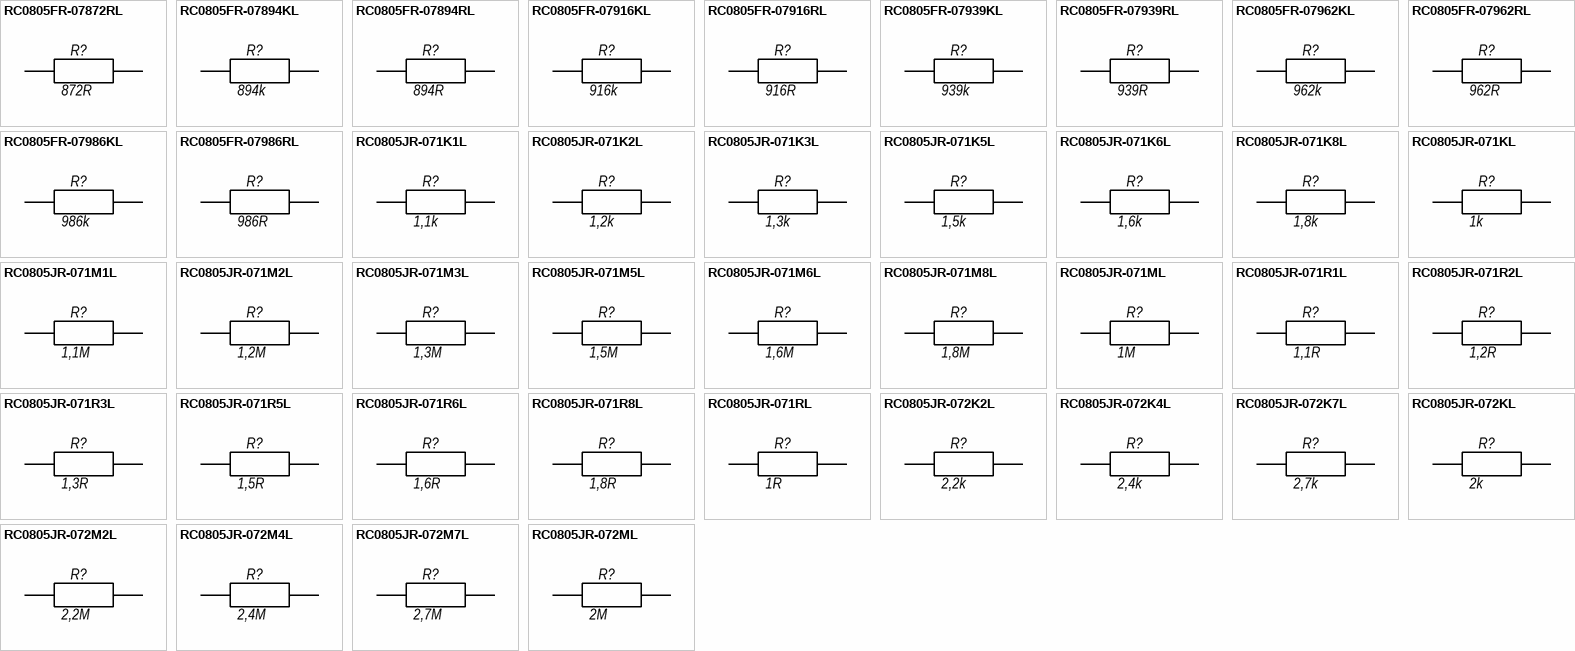
[diagram p15: symbols RC0805FR-07872RL to RC0805JR-072ML]

## RC0805FR-07872RL
designator R?, comment 872R
RC0805FR-07872RL 0805 872 Ohm ±1% 1/8W 0805 SMD -55C...+155C; Manufacturer: Yageo; BOM2: 872 Ом ±1%, 1/8 Вт, SMD 0805, RC0805FR-07872RL; ValueBOM: RC0805FR-07872RL   Yageo                            (872 Ом ±1%, 1/8 Вт, SMD 0805, RC0805FR-07872RL); Value: 872R; Part Number: RC0805FR-07872RL; Package: 0805; BOM1: 872 Ohm ±1% 1/8W 0805 SMD
footprint RESC_0805_2012N (Chip Resistor, Body 2.0x1.3mm, IPC Medium Density)
footprint RESC_0805_2012M (Chip Resistor, Body 2.0x1.3mm, IPC Low Density)
footprint RESC_0805_2012L (Chip Resistor, Body 2.0x1.3mm, IPC High Density)
pins: 1, 2

## RC0805FR-07894KL
designator R?, comment 894k
RC0805FR-07894KL 0805 894 kOhm ±1% 1/8W 0805 SMD -55C...+155C; Manufacturer: Yageo; BOM2: 894 кОм ±1%, 1/8 Вт, SMD 0805, RC0805FR-07894KL; ValueBOM: RC0805FR-07894KL   Yageo                            (894 кОм ±1%, 1/8 Вт, SMD 0805, RC0805FR-07894KL); Value: 894k; Part Number: RC0805FR-07894KL; Package: 0805; BOM1: 894 kOhm ±1% 1/8W 0805 SMD
footprint RESC_0805_2012N (Chip Resistor, Body 2.0x1.3mm, IPC Medium Density)
footprint RESC_0805_2012M (Chip Resistor, Body 2.0x1.3mm, IPC Low Density)
footprint RESC_0805_2012L (Chip Resistor, Body 2.0x1.3mm, IPC High Density)
pins: 1, 2

## RC0805FR-07894RL
designator R?, comment 894R
RC0805FR-07894RL 0805 894 Ohm ±1% 1/8W 0805 SMD -55C...+155C; Manufacturer: Yageo; BOM2: 894 Ом ±1%, 1/8 Вт, SMD 0805, RC0805FR-07894RL; ValueBOM: RC0805FR-07894RL   Yageo                            (894 Ом ±1%, 1/8 Вт, SMD 0805, RC0805FR-07894RL); Value: 894R; Part Number: RC0805FR-07894RL; Package: 0805; BOM1: 894 Ohm ±1% 1/8W 0805 SMD
footprint RESC_0805_2012N (Chip Resistor, Body 2.0x1.3mm, IPC Medium Density)
footprint RESC_0805_2012M (Chip Resistor, Body 2.0x1.3mm, IPC Low Density)
footprint RESC_0805_2012L (Chip Resistor, Body 2.0x1.3mm, IPC High Density)
pins: 1, 2

## RC0805FR-07916KL
designator R?, comment 916k
RC0805FR-07916KL 0805 916 kOhm ±1% 1/8W 0805 SMD -55C...+155C; Manufacturer: Yageo; BOM2: 916 кОм ±1%, 1/8 Вт, SMD 0805, RC0805FR-07916KL; ValueBOM: RC0805FR-07916KL   Yageo                            (916 кОм ±1%, 1/8 Вт, SMD 0805, RC0805FR-07916KL); Value: 916k; Part Number: RC0805FR-07916KL; Package: 0805; BOM1: 916 kOhm ±1% 1/8W 0805 SMD
footprint RESC_0805_2012N (Chip Resistor, Body 2.0x1.3mm, IPC Medium Density)
footprint RESC_0805_2012M (Chip Resistor, Body 2.0x1.3mm, IPC Low Density)
footprint RESC_0805_2012L (Chip Resistor, Body 2.0x1.3mm, IPC High Density)
pins: 1, 2

## RC0805FR-07916RL
designator R?, comment 916R
RC0805FR-07916RL 0805 916 Ohm ±1% 1/8W 0805 SMD -55C...+155C; Manufacturer: Yageo; BOM2: 916 Ом ±1%, 1/8 Вт, SMD 0805, RC0805FR-07916RL; ValueBOM: RC0805FR-07916RL   Yageo                            (916 Ом ±1%, 1/8 Вт, SMD 0805, RC0805FR-07916RL); Value: 916R; Part Number: RC0805FR-07916RL; Package: 0805; BOM1: 916 Ohm ±1% 1/8W 0805 SMD
footprint RESC_0805_2012N (Chip Resistor, Body 2.0x1.3mm, IPC Medium Density)
footprint RESC_0805_2012M (Chip Resistor, Body 2.0x1.3mm, IPC Low Density)
footprint RESC_0805_2012L (Chip Resistor, Body 2.0x1.3mm, IPC High Density)
pins: 1, 2

## RC0805FR-07939KL
designator R?, comment 939k
RC0805FR-07939KL 0805 939 kOhm ±1% 1/8W 0805 SMD -55C...+155C; Manufacturer: Yageo; BOM2: 939 кОм ±1%, 1/8 Вт, SMD 0805, RC0805FR-07939KL; ValueBOM: RC0805FR-07939KL   Yageo                            (939 кОм ±1%, 1/8 Вт, SMD 0805, RC0805FR-07939KL); Value: 939k; Part Number: RC0805FR-07939KL; Package: 0805; BOM1: 939 kOhm ±1% 1/8W 0805 SMD
footprint RESC_0805_2012N (Chip Resistor, Body 2.0x1.3mm, IPC Medium Density)
footprint RESC_0805_2012M (Chip Resistor, Body 2.0x1.3mm, IPC Low Density)
footprint RESC_0805_2012L (Chip Resistor, Body 2.0x1.3mm, IPC High Density)
pins: 1, 2

## RC0805FR-07939RL
designator R?, comment 939R
RC0805FR-07939RL 0805 939 Ohm ±1% 1/8W 0805 SMD -55C...+155C; Manufacturer: Yageo; BOM2: 939 Ом ±1%, 1/8 Вт, SMD 0805, RC0805FR-07939RL; ValueBOM: RC0805FR-07939RL   Yageo                            (939 Ом ±1%, 1/8 Вт, SMD 0805, RC0805FR-07939RL); Value: 939R; Part Number: RC0805FR-07939RL; Package: 0805; BOM1: 939 Ohm ±1% 1/8W 0805 SMD
footprint RESC_0805_2012N (Chip Resistor, Body 2.0x1.3mm, IPC Medium Density)
footprint RESC_0805_2012M (Chip Resistor, Body 2.0x1.3mm, IPC Low Density)
footprint RESC_0805_2012L (Chip Resistor, Body 2.0x1.3mm, IPC High Density)
pins: 1, 2

## RC0805FR-07962KL
designator R?, comment 962k
RC0805FR-07962KL 0805 962 kOhm ±1% 1/8W 0805 SMD -55C...+155C; Manufacturer: Yageo; BOM2: 962 кОм ±1%, 1/8 Вт, SMD 0805, RC0805FR-07962KL; ValueBOM: RC0805FR-07962KL   Yageo                            (962 кОм ±1%, 1/8 Вт, SMD 0805, RC0805FR-07962KL); Value: 962k; Part Number: RC0805FR-07962KL; Package: 0805; BOM1: 962 kOhm ±1% 1/8W 0805 SMD
footprint RESC_0805_2012N (Chip Resistor, Body 2.0x1.3mm, IPC Medium Density)
footprint RESC_0805_2012M (Chip Resistor, Body 2.0x1.3mm, IPC Low Density)
footprint RESC_0805_2012L (Chip Resistor, Body 2.0x1.3mm, IPC High Density)
pins: 1, 2

## RC0805FR-07962RL
designator R?, comment 962R
RC0805FR-07962RL 0805 962 Ohm ±1% 1/8W 0805 SMD -55C...+155C; Manufacturer: Yageo; BOM2: 962 Ом ±1%, 1/8 Вт, SMD 0805, RC0805FR-07962RL; ValueBOM: RC0805FR-07962RL   Yageo                            (962 Ом ±1%, 1/8 Вт, SMD 0805, RC0805FR-07962RL); Value: 962R; Part Number: RC0805FR-07962RL; Package: 0805; BOM1: 962 Ohm ±1% 1/8W 0805 SMD
footprint RESC_0805_2012N (Chip Resistor, Body 2.0x1.3mm, IPC Medium Density)
footprint RESC_0805_2012M (Chip Resistor, Body 2.0x1.3mm, IPC Low Density)
footprint RESC_0805_2012L (Chip Resistor, Body 2.0x1.3mm, IPC High Density)
pins: 1, 2

## RC0805FR-07986KL
designator R?, comment 986k
RC0805FR-07986KL 0805 986 kOhm ±1% 1/8W 0805 SMD -55C...+155C; Manufacturer: Yageo; BOM2: 986 кОм ±1%, 1/8 Вт, SMD 0805, RC0805FR-07986KL; ValueBOM: RC0805FR-07986KL   Yageo                            (986 кОм ±1%, 1/8 Вт, SMD 0805, RC0805FR-07986KL); Value: 986k; Part Number: RC0805FR-07986KL; Package: 0805; BOM1: 986 kOhm ±1% 1/8W 0805 SMD
footprint RESC_0805_2012N (Chip Resistor, Body 2.0x1.3mm, IPC Medium Density)
footprint RESC_0805_2012M (Chip Resistor, Body 2.0x1.3mm, IPC Low Density)
footprint RESC_0805_2012L (Chip Resistor, Body 2.0x1.3mm, IPC High Density)
pins: 1, 2

## RC0805FR-07986RL
designator R?, comment 986R
RC0805FR-07986RL 0805 986 Ohm ±1% 1/8W 0805 SMD -55C...+155C; Manufacturer: Yageo; BOM2: 986 Ом ±1%, 1/8 Вт, SMD 0805, RC0805FR-07986RL; ValueBOM: RC0805FR-07986RL   Yageo                            (986 Ом ±1%, 1/8 Вт, SMD 0805, RC0805FR-07986RL); Value: 986R; Part Number: RC0805FR-07986RL; Package: 0805; BOM1: 986 Ohm ±1% 1/8W 0805 SMD
footprint RESC_0805_2012N (Chip Resistor, Body 2.0x1.3mm, IPC Medium Density)
footprint RESC_0805_2012M (Chip Resistor, Body 2.0x1.3mm, IPC Low Density)
footprint RESC_0805_2012L (Chip Resistor, Body 2.0x1.3mm, IPC High Density)
pins: 1, 2

## RC0805JR-071K1L
designator R?, comment 1,1k
RC0805JR-071K1L 0805 1.1 kOhm ±5% 1/8W 0805 SMD -55C...+155C; Manufacturer: Yageo; BOM2: 1,1 кОм ±5%, 1/8 Вт, SMD 0805, RC0805JR-071K1L; ValueBOM: RC0805JR-071K1L   Yageo                            (1,1 кОм ±5%, 1/8 Вт, SMD 0805, RC0805JR-071K1L); Value: 1,1k; Part Number: RC0805JR-071K1L; Package: 0805; BOM1: 1.1 kOhm ±5% 1/8W 0805 SMD
footprint RESC_0805_2012N (Chip Resistor, Body 2.0x1.3mm, IPC Medium Density)
footprint RESC_0805_2012M (Chip Resistor, Body 2.0x1.3mm, IPC Low Density)
footprint RESC_0805_2012L (Chip Resistor, Body 2.0x1.3mm, IPC High Density)
pins: 1, 2

## RC0805JR-071K2L
designator R?, comment 1,2k
RC0805JR-071K2L 0805 1.2 kOhm ±5% 1/8W 0805 SMD -55C...+155C; Manufacturer: Yageo; BOM2: 1,2 кОм ±5%, 1/8 Вт, SMD 0805, RC0805JR-071K2L; ValueBOM: RC0805JR-071K2L   Yageo                            (1,2 кОм ±5%, 1/8 Вт, SMD 0805, RC0805JR-071K2L); Value: 1,2k; Part Number: RC0805JR-071K2L; Package: 0805; BOM1: 1.2 kOhm ±5% 1/8W 0805 SMD
footprint RESC_0805_2012N (Chip Resistor, Body 2.0x1.3mm, IPC Medium Density)
footprint RESC_0805_2012M (Chip Resistor, Body 2.0x1.3mm, IPC Low Density)
footprint RESC_0805_2012L (Chip Resistor, Body 2.0x1.3mm, IPC High Density)
pins: 1, 2

## RC0805JR-071K3L
designator R?, comment 1,3k
RC0805JR-071K3L 0805 1.3 kOhm ±5% 1/8W 0805 SMD -55C...+155C; Manufacturer: Yageo; BOM2: 1,3 кОм ±5%, 1/8 Вт, SMD 0805, RC0805JR-071K3L; ValueBOM: RC0805JR-071K3L   Yageo                            (1,3 кОм ±5%, 1/8 Вт, SMD 0805, RC0805JR-071K3L); Value: 1,3k; Part Number: RC0805JR-071K3L; Package: 0805; BOM1: 1.3 kOhm ±5% 1/8W 0805 SMD
footprint RESC_0805_2012N (Chip Resistor, Body 2.0x1.3mm, IPC Medium Density)
footprint RESC_0805_2012M (Chip Resistor, Body 2.0x1.3mm, IPC Low Density)
footprint RESC_0805_2012L (Chip Resistor, Body 2.0x1.3mm, IPC High Density)
pins: 1, 2

## RC0805JR-071K5L
designator R?, comment 1,5k
RC0805JR-071K5L 0805 1.5 kOhm ±5% 1/8W 0805 SMD -55C...+155C; Manufacturer: Yageo; BOM2: 1,5 кОм ±5%, 1/8 Вт, SMD 0805, RC0805JR-071K5L; ValueBOM: RC0805JR-071K5L   Yageo                            (1,5 кОм ±5%, 1/8 Вт, SMD 0805, RC0805JR-071K5L); Value: 1,5k; Part Number: RC0805JR-071K5L; Package: 0805; BOM1: 1.5 kOhm ±5% 1/8W 0805 SMD
footprint RESC_0805_2012N (Chip Resistor, Body 2.0x1.3mm, IPC Medium Density)
footprint RESC_0805_2012M (Chip Resistor, Body 2.0x1.3mm, IPC Low Density)
footprint RESC_0805_2012L (Chip Resistor, Body 2.0x1.3mm, IPC High Density)
pins: 1, 2

## RC0805JR-071K6L
designator R?, comment 1,6k
RC0805JR-071K6L 0805 1.6 kOhm ±5% 1/8W 0805 SMD -55C...+155C; Manufacturer: Yageo; BOM2: 1,6 кОм ±5%, 1/8 Вт, SMD 0805, RC0805JR-071K6L; ValueBOM: RC0805JR-071K6L   Yageo                            (1,6 кОм ±5%, 1/8 Вт, SMD 0805, RC0805JR-071K6L); Value: 1,6k; Part Number: RC0805JR-071K6L; Package: 0805; BOM1: 1.6 kOhm ±5% 1/8W 0805 SMD
footprint RESC_0805_2012N (Chip Resistor, Body 2.0x1.3mm, IPC Medium Density)
footprint RESC_0805_2012M (Chip Resistor, Body 2.0x1.3mm, IPC Low Density)
footprint RESC_0805_2012L (Chip Resistor, Body 2.0x1.3mm, IPC High Density)
pins: 1, 2

## RC0805JR-071K8L
designator R?, comment 1,8k
RC0805JR-071K8L 0805 1.8 kOhm ±5% 1/8W 0805 SMD -55C...+155C; Manufacturer: Yageo; BOM2: 1,8 кОм ±5%, 1/8 Вт, SMD 0805, RC0805JR-071K8L; ValueBOM: RC0805JR-071K8L   Yageo                            (1,8 кОм ±5%, 1/8 Вт, SMD 0805, RC0805JR-071K8L); Value: 1,8k; Part Number: RC0805JR-071K8L; Package: 0805; BOM1: 1.8 kOhm ±5% 1/8W 0805 SMD
footprint RESC_0805_2012N (Chip Resistor, Body 2.0x1.3mm, IPC Medium Density)
footprint RESC_0805_2012M (Chip Resistor, Body 2.0x1.3mm, IPC Low Density)
footprint RESC_0805_2012L (Chip Resistor, Body 2.0x1.3mm, IPC High Density)
pins: 1, 2

## RC0805JR-071KL
designator R?, comment 1k
RC0805JR-071KL 0805 1 kOhm ±5% 1/8W 0805 SMD -55C...+155C; Manufacturer: Yageo; BOM2: 1 кОм ±5%, 1/8 Вт, SMD 0805, RC0805JR-071KL; ValueBOM: RC0805JR-071KL   Yageo                            (1 кОм ±5%, 1/8 Вт, SMD 0805, RC0805JR-071KL); Value: 1k; Part Number: RC0805JR-071KL; Package: 0805; BOM1: 1 kOhm ±5% 1/8W 0805 SMD
footprint RESC_0805_2012N (Chip Resistor, Body 2.0x1.3mm, IPC Medium Density)
footprint RESC_0805_2012M (Chip Resistor, Body 2.0x1.3mm, IPC Low Density)
footprint RESC_0805_2012L (Chip Resistor, Body 2.0x1.3mm, IPC High Density)
pins: 1, 2

## RC0805JR-071M1L
designator R?, comment 1,1M
RC0805JR-071M1L 0805 1.1 MOhm ±5% 1/8W 0805 SMD -55C...+155C; Manufacturer: Yageo; BOM2: 1,1 МОм ±5%, 1/8 Вт, SMD 0805, RC0805JR-071M1L; ValueBOM: RC0805JR-071M1L   Yageo                            (1,1 МОм ±5%, 1/8 Вт, SMD 0805, RC0805JR-071M1L); Value: 1,1M; Part Number: RC0805JR-071M1L; Package: 0805; BOM1: 1.1 MOhm ±5% 1/8W 0805 SMD
footprint RESC_0805_2012N (Chip Resistor, Body 2.0x1.3mm, IPC Medium Density)
footprint RESC_0805_2012M (Chip Resistor, Body 2.0x1.3mm, IPC Low Density)
footprint RESC_0805_2012L (Chip Resistor, Body 2.0x1.3mm, IPC High Density)
pins: 1, 2

## RC0805JR-071M2L
designator R?, comment 1,2M
RC0805JR-071M2L 0805 1.2 MOhm ±5% 1/8W 0805 SMD -55C...+155C; Manufacturer: Yageo; BOM2: 1,2 МОм ±5%, 1/8 Вт, SMD 0805, RC0805JR-071M2L; ValueBOM: RC0805JR-071M2L   Yageo                            (1,2 МОм ±5%, 1/8 Вт, SMD 0805, RC0805JR-071M2L); Value: 1,2M; Part Number: RC0805JR-071M2L; Package: 0805; BOM1: 1.2 MOhm ±5% 1/8W 0805 SMD
footprint RESC_0805_2012N (Chip Resistor, Body 2.0x1.3mm, IPC Medium Density)
footprint RESC_0805_2012M (Chip Resistor, Body 2.0x1.3mm, IPC Low Density)
footprint RESC_0805_2012L (Chip Resistor, Body 2.0x1.3mm, IPC High Density)
pins: 1, 2

## RC0805JR-071M3L
designator R?, comment 1,3M
RC0805JR-071M3L 0805 1.3 MOhm ±5% 1/8W 0805 SMD -55C...+155C; Manufacturer: Yageo; BOM2: 1,3 МОм ±5%, 1/8 Вт, SMD 0805, RC0805JR-071M3L; ValueBOM: RC0805JR-071M3L   Yageo                            (1,3 МОм ±5%, 1/8 Вт, SMD 0805, RC0805JR-071M3L); Value: 1,3M; Part Number: RC0805JR-071M3L; Package: 0805; BOM1: 1.3 MOhm ±5% 1/8W 0805 SMD
footprint RESC_0805_2012N (Chip Resistor, Body 2.0x1.3mm, IPC Medium Density)
footprint RESC_0805_2012M (Chip Resistor, Body 2.0x1.3mm, IPC Low Density)
footprint RESC_0805_2012L (Chip Resistor, Body 2.0x1.3mm, IPC High Density)
pins: 1, 2

## RC0805JR-071M5L
designator R?, comment 1,5M
RC0805JR-071M5L 0805 1.5 MOhm ±5% 1/8W 0805 SMD -55C...+155C; Manufacturer: Yageo; BOM2: 1,5 МОм ±5%, 1/8 Вт, SMD 0805, RC0805JR-071M5L; ValueBOM: RC0805JR-071M5L   Yageo                            (1,5 МОм ±5%, 1/8 Вт, SMD 0805, RC0805JR-071M5L); Value: 1,5M; Part Number: RC0805JR-071M5L; Package: 0805; BOM1: 1.5 MOhm ±5% 1/8W 0805 SMD
footprint RESC_0805_2012N (Chip Resistor, Body 2.0x1.3mm, IPC Medium Density)
footprint RESC_0805_2012M (Chip Resistor, Body 2.0x1.3mm, IPC Low Density)
footprint RESC_0805_2012L (Chip Resistor, Body 2.0x1.3mm, IPC High Density)
pins: 1, 2

## RC0805JR-071M6L
designator R?, comment 1,6M
RC0805JR-071M6L 0805 1.6 MOhm ±5% 1/8W 0805 SMD -55C...+155C; Manufacturer: Yageo; BOM2: 1,6 МОм ±5%, 1/8 Вт, SMD 0805, RC0805JR-071M6L; ValueBOM: RC0805JR-071M6L   Yageo                            (1,6 МОм ±5%, 1/8 Вт, SMD 0805, RC0805JR-071M6L); Value: 1,6M; Part Number: RC0805JR-071M6L; Package: 0805; BOM1: 1.6 MOhm ±5% 1/8W 0805 SMD
footprint RESC_0805_2012N (Chip Resistor, Body 2.0x1.3mm, IPC Medium Density)
footprint RESC_0805_2012M (Chip Resistor, Body 2.0x1.3mm, IPC Low Density)
footprint RESC_0805_2012L (Chip Resistor, Body 2.0x1.3mm, IPC High Density)
pins: 1, 2

## RC0805JR-071M8L
designator R?, comment 1,8M
RC0805JR-071M8L 0805 1.8 MOhm ±5% 1/8W 0805 SMD -55C...+155C; Manufacturer: Yageo; BOM2: 1,8 МОм ±5%, 1/8 Вт, SMD 0805, RC0805JR-071M8L; ValueBOM: RC0805JR-071M8L   Yageo                            (1,8 МОм ±5%, 1/8 Вт, SMD 0805, RC0805JR-071M8L); Value: 1,8M; Part Number: RC0805JR-071M8L; Package: 0805; BOM1: 1.8 MOhm ±5% 1/8W 0805 SMD
footprint RESC_0805_2012N (Chip Resistor, Body 2.0x1.3mm, IPC Medium Density)
footprint RESC_0805_2012M (Chip Resistor, Body 2.0x1.3mm, IPC Low Density)
footprint RESC_0805_2012L (Chip Resistor, Body 2.0x1.3mm, IPC High Density)
pins: 1, 2

## RC0805JR-071ML
designator R?, comment 1M
RC0805JR-071ML 0805 1 MOhm ±5% 1/8W 0805 SMD -55C...+155C; Manufacturer: Yageo; BOM2: 1 МОм ±5%, 1/8 Вт, SMD 0805, RC0805JR-071ML; ValueBOM: RC0805JR-071ML   Yageo                            (1 МОм ±5%, 1/8 Вт, SMD 0805, RC0805JR-071ML); Value: 1M; Part Number: RC0805JR-071ML; Package: 0805; BOM1: 1 MOhm ±5% 1/8W 0805 SMD
footprint RESC_0805_2012N (Chip Resistor, Body 2.0x1.3mm, IPC Medium Density)
footprint RESC_0805_2012M (Chip Resistor, Body 2.0x1.3mm, IPC Low Density)
footprint RESC_0805_2012L (Chip Resistor, Body 2.0x1.3mm, IPC High Density)
pins: 1, 2

## RC0805JR-071R1L
designator R?, comment 1,1R
RC0805JR-071R1L 0805 1.1 Ohm ±5% 1/8W 0805 SMD -55C...+155C; Manufacturer: Yageo; BOM2: 1,1 Ом ±5%, 1/8 Вт, SMD 0805, RC0805JR-071R1L; ValueBOM: RC0805JR-071R1L   Yageo                            (1,1 Ом ±5%, 1/8 Вт, SMD 0805, RC0805JR-071R1L); Value: 1,1R; Part Number: RC0805JR-071R1L; Package: 0805; BOM1: 1.1 Ohm ±5% 1/8W 0805 SMD
footprint RESC_0805_2012N (Chip Resistor, Body 2.0x1.3mm, IPC Medium Density)
footprint RESC_0805_2012M (Chip Resistor, Body 2.0x1.3mm, IPC Low Density)
footprint RESC_0805_2012L (Chip Resistor, Body 2.0x1.3mm, IPC High Density)
pins: 1, 2